# Altium schematic symbol library Schlib1.SchLib: 2 symbols
Pins are listed as number, name and electrical type; pins without a type are passive.

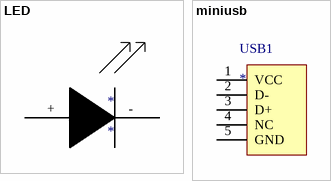
[diagram p0: symbols LED to miniusb]

## LED
designator *
pins: + 6, -

## miniusb
designator USB1
pins: 1 VCC, 2 D-, 3 D+, 4 NC, 5 GND